# Altium schematic symbol library MLX9039X.SchLib: 1 symbol
Pins are listed as number, name and electrical type; pins without a type are passive.

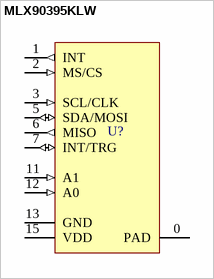
[diagram p0: symbol MLX90395KLW]

## MLX90395KLW
designator U?, comment SENSOR MAG 3D  (value not drawn)
Supplier 1: Mouser; Supplier Part Number 1: 482-90395KLWBBA101SP
pins: 0 PAD (power), 1 INT (out), 2 MS/CS (in), 3 SCL/CLK (in), 5 SDA/MOSI (io), 6 MISO (out), 7 INT/TRG (io), 11 A1 (in), 12 A0 (in), 13 GND (power), 15 VDD (power)